# Altium integrated library ON Semi Low VCE(Sat) Transistors.IntLib: 130 symbols (part 3 of 3)
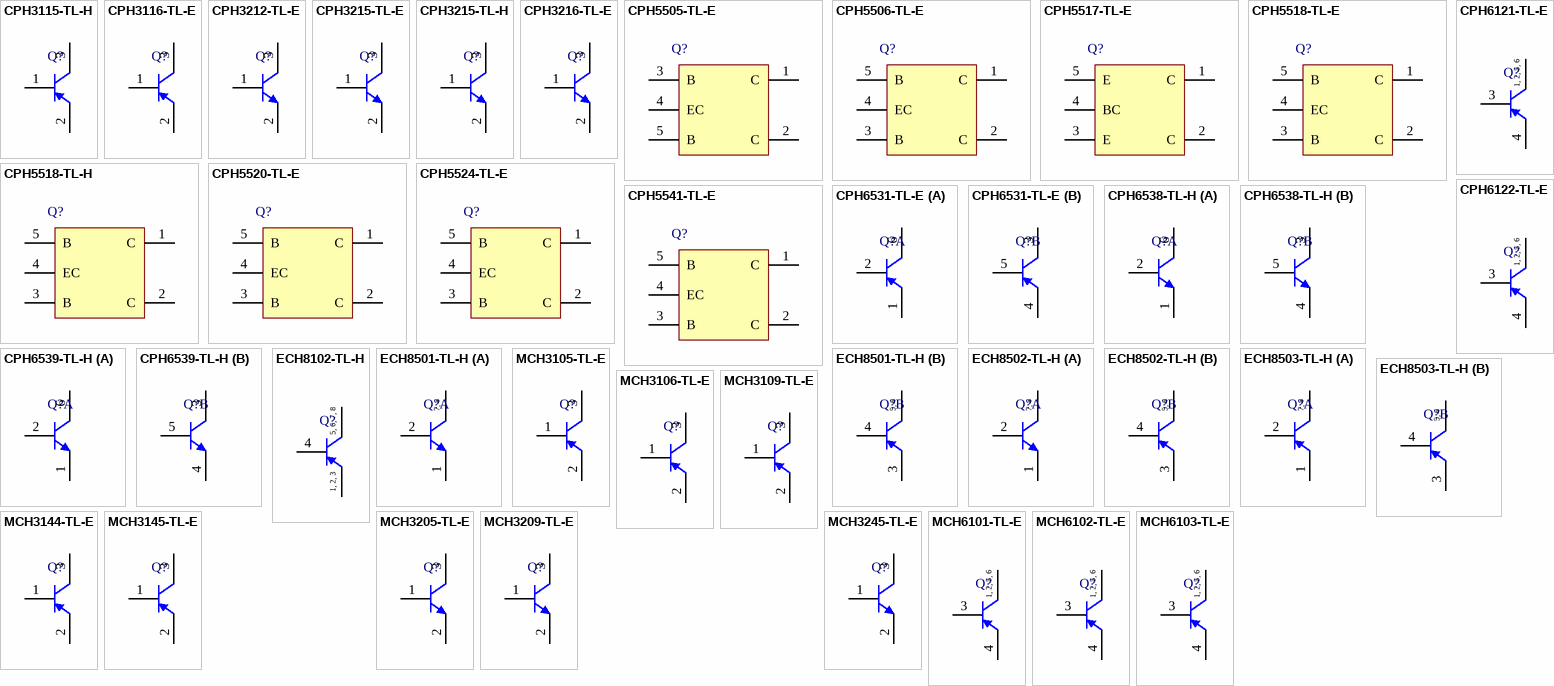
[diagram p5: symbols CPH3115-TL-H to MCH6103-TL-E]

## CPH6122-TL-E
designator Q?
Bipolar Transistor, -30 V, -3 A, Low VCE(sat), PNP Single, 6-Pin CPH, Pb-Free, Tape and Reel; Manufacturer: On Semiconductor; PartNumber: CPH6122-TL-E; hFE Max: 560; hFE Min: 200; PackageReference: CPH-6; PackageDescription: 6-Pin Small Outline Transistor, Body 2.9 x 1.6 mm, Pitch 0.95 mm; Supplier 1: Digi-Key; Supplier Part Number 1: CPH6122-TL-E-ND; Supplier 2: Mouser; Supplier Part Number 2: 863-CPH6122-TL-E; IC Continuous (A): -3; Packing: Tape and Reel; Polarity: PNP; RoHS: TRUE; V(BR)CEO Min (V): -30; Mounting Technology: Surface Mount; ComponentLink1Description: Manufacturer URL; ComponentLink1URL: http://www.onsemi.com/; ComponentLink2Description: Datasheet; ComponentLink2URL: http://www.onsemi.com/pub_link/Collateral/CPH6122-D.PDF; ComponentLink3Description: Package Specification; ComponentLink3URL: http://www.onsemi.com/pub_link/Collateral/CPH6001A-D.PDF
footprint ONSC-CPH-6_V (SOT23, 6-Leads, Body 2.9x1.6mm, Pitch 0.95mm)
pins: 1 C, 2 C, 3 B, 4 E, 5 C, 6 C
text: 1, 2, 5, 6

## CPH6531-TL-E
designator Q?
Bipolar Transistor, -50 V, -1 A, Low VCE(sat) PNP Dual, 6-Pin CPH, Pb-Free, Tape and Reel; Manufacturer: On Semiconductor; PartNumber: CPH6531-TL-E; hFE Max: 560; hFE Min: 200; Polarity: Dual PNP; PackageReference: CPH-6; PackageDescription: 6-Pin Small Outline Transistor, Body 2.9 x 1.6 mm, Pitch 0.95 mm; Supplier 1: Digi-Key; Supplier Part Number 1: CPH6531-TL-E-ND; Supplier 2: Mouser; Supplier Part Number 2: 863-CPH6531-TL-E; IC Continuous (A): -1; Packing: Tape and Reel; RoHS: TRUE; V(BR)CEO Min (V): -50; Mounting Technology: Surface Mount; ComponentLink1Description: Manufacturer URL; ComponentLink1URL: http://www.onsemi.com/; ComponentLink2Description: Datasheet; ComponentLink2URL: http://www.onsemi.cn/pub_link/Collateral/CPH6531-D.PDF; ComponentLink3Description: Package Specification; ComponentLink3URL: http://www.onsemi.com/pub_link/Collateral/CPH6001A-D.PDF
footprint ONSC-CPH-6_V (SOT23, 6-Leads, Body 2.9x1.6mm, Pitch 0.95mm)
part A pins: 1 E, 2 B, 6 C
part B pins: 3 C, 4 E, 5 B

## CPH6538-TL-H
designator Q?
Bipolar Transistors, 30 V, 0.7 A, Low VCE(sat) NPN Dual, 6-Pin CPH, Pb-Free, Tape and Reel; Manufacturer: On Semiconductor; PartNumber: CPH6538-TL-H; hFE Max: 800; hFE Min: 300; IC Continuous (A): 0.7; V(BR)CEO Min (V): 30; VCE(sat) Max (V): 0.19; PackageReference: CPH-6; PackageDescription: 6-Pin Small Outline Transistor, Body 2.9 x 1.6 mm, Pitch 0.95 mm; Supplier 1: Digi-Key; Supplier Part Number 1: CPH6538-TL-H-ND; Supplier 2: Newark; Supplier Part Number 2: 07W6757; Supplier 3: Mouser; Supplier Part Number 3: 863-CPH6538-TL-H; Packing: Tape and Reel; Polarity: NPN; RoHS: TRUE; Mounting Technology: Surface Mount; ComponentLink1Description: Manufacturer URL; ComponentLink1URL: http://www.onsemi.com/; ComponentLink2Description: Datasheet; ComponentLink2URL: http://www.onsemi.com/pub_link/Collateral/ENA1757-D.PDF; ComponentLink3Description: Package Specification; ComponentLink3URL: http://www.onsemi.com/pub_link/Collateral/CPH6001A-D.PDF
footprint ONSC-CPH-6_V (SOT23, 6-Leads, Body 2.9x1.6mm, Pitch 0.95mm)
part A pins: 1 E, 2 B, 6 C
part B pins: 3 C, 4 E, 5 B

## CPH6539-TL-H
designator Q?
Bipolar Transistors, 30 V, 1.5 A, Low VCE(sat) NPN Dual, 6-Pin CPH, Pb-Free, Tape and Reel; Manufacturer: On Semiconductor; PartNumber: CPH6539-TL-H; hFE Max: 560; hFE Min: 200; IC Continuous (A): 1.5; V(BR)CEO Min (V): 30; VCE(sat) Max (V): 0.25; PackageReference: CPH-6; PackageDescription: 6-Pin Small Outline Transistor, Body 2.9 x 1.6 mm, Pitch 0.95 mm; Supplier 1: Digi-Key; Supplier Part Number 1: CPH6539-TL-H-ND; Supplier 2: Newark; Supplier Part Number 2: 07W6758; Supplier 3: Mouser; Supplier Part Number 3: 863-CPH6539-TL-H; Packing: Tape and Reel; Polarity: NPN; RoHS: TRUE; Mounting Technology: Surface Mount; ComponentLink1Description: Manufacturer URL; ComponentLink1URL: http://www.onsemi.com/; ComponentLink2Description: Datasheet; ComponentLink2URL: http://www.onsemi.com/pub_link/Collateral/ENA1756-D.PDF; ComponentLink3Description: Package Specification; ComponentLink3URL: http://www.onsemi.com/pub_link/Collateral/CPH6001A-D.PDF
footprint ONSC-CPH-6_V (SOT23, 6-Leads, Body 2.9x1.6mm, Pitch 0.95mm)
part A pins: 1 E, 2 B, 6 C
part B pins: 3 C, 4 E, 5 B

## ECH8102-TL-H
designator Q?
Bipolar Transistor, -30 V, -12 A, Low VCE(sat), PNP Single, 8-Pin SOT-28FL, Pb-Free, Tape and Reel; Manufacturer: On Semiconductor; PartNumber: ECH8102-TL-H; PackageReference: ECH-8; PackageDescription: 8-Pin SOT23, Body 2.9 x 2.3 mm, Pitch 0.65 mm; Supplier 1: Digi-Key; Supplier Part Number 1: ECH8102-TL-H-ND; Supplier 2: Newark; Supplier Part Number 2: 07W6843; Supplier 3: Mouser; Supplier Part Number 3: 863-ECH8102-TL-H; IC Continuous (A): -12; Packing: Tape and Reel; Polarity: PNP; RoHS: TRUE; V(BR)CEO Min (V): -30; Mounting Technology: Surface Mount; ComponentLink1Description: Manufacturer URL; ComponentLink1URL: http://www.onsemi.com/; ComponentLink2Description: Datasheet; ComponentLink2URL: http://www.onsemi.cn/pub_link/Collateral/ENA1420-D.PDF; ComponentLink3Description: Package Specification; ComponentLink3URL: http://www.onsemi.com/pub_link/Collateral/ECH8308-D.PDF
footprint ONSC-ECH-8_V (SOT23, 8-Leads, Body 2.9x2.3mm, Pitch 0.65mm)
pins: 1 E, 2 E, 3 E, 4 B, 5 C, 6 C, 7 C, 8 C
text: 5, 6, 7, 8; 1, 2, 3

## ECH8501-TL-H
designator Q?
Bipolar Transistor, (-)30 V, (-)30 A, Low VCE(sat) Complementary Dual, 8-Pin SOT-28FL, Pb-Free, Tape and Reel; Manufacturer: On Semiconductor; PartNumber: ECH8501-TL-H; hFE Max: 560; hFE Min: 200; IC Continuous (A): 5; V(BR)CEO Min (V): 30; PackageReference: ECH-8; PackageDescription: 8-Pin SOT23, Body 2.9 x 2.3 mm, Pitch 0.65 mm; Supplier 1: Digi-Key; Supplier Part Number 1: ECH8501-TL-H-ND; Supplier 2: Mouser; Supplier Part Number 2: 863-ECH8501-TL-H; Packing: Tape and Reel; Polarity: Complementary; RoHS: TRUE; Mounting Technology: Surface Mount; ComponentLink1Description: Manufacturer URL; ComponentLink1URL: http://www.onsemi.com/; ComponentLink2Description: Datasheet; ComponentLink2URL: http://www.onsemi.cn/pub_link/Collateral/ECH8501-D.PDF; ComponentLink3Description: Package Specification; ComponentLink3URL: http://www.onsemi.com/pub_link/Collateral/ECH8308-D.PDF
footprint ONSC-ECH-8_V (SOT23, 8-Leads, Body 2.9x2.3mm, Pitch 0.65mm)
part A pins: 1 E, 2 B, 7 C, 8 C
part B pins: 3 E, 4 B, 5 C, 6 C
part A text: 7, 8
part B text: 5, 6

## ECH8502-TL-H
designator Q?
Bipolar Transistor, (-)50 V, (-)30 A, Low VCE(sat) Complementary Dual, 8-Pin SOT-28FL, Pb-Free, Tape and Reel; Manufacturer: On Semiconductor; PartNumber: ECH8502-TL-H; hFE Max: 560; hFE Min: 200; IC Continuous (A): 5; V(BR)CEO Min (V): 50; PackageReference: ECH-8; PackageDescription: 8-Pin SOT23, Body 2.9 x 2.3 mm, Pitch 0.65 mm; Supplier 1: Digi-Key; Supplier Part Number 1: ECH8502-TL-H-ND; Supplier 2: Mouser; Supplier Part Number 2: 863-ECH8502-TL-H; Packing: Tape and Reel; Polarity: Complementary; RoHS: TRUE; Mounting Technology: Surface Mount; ComponentLink1Description: Manufacturer URL; ComponentLink1URL: http://www.onsemi.com/; ComponentLink2Description: Datasheet; ComponentLink2URL: http://www.onsemi.cn/pub_link/Collateral/ENA1758-D.PDF; ComponentLink3Description: Package Specification; ComponentLink3URL: http://www.onsemi.com/pub_link/Collateral/ECH8308-D.PDF
footprint ONSC-ECH-8_V (SOT23, 8-Leads, Body 2.9x2.3mm, Pitch 0.65mm)
part A pins: 1 E, 2 B, 7 C, 8 C
part B pins: 3 E, 4 B, 5 C, 6 C
part A text: 7, 8
part B text: 5, 6

## ECH8503-TL-H
designator Q?
Bipolar Transistors, -50 V, -5 A, Low VCE(sat) PNP Dual, 8-Pin SOT-28, Pb-Free, Tape and Reel; Manufacturer: On Semiconductor; PartNumber: ECH8503-TL-H; hFE Max: 560; hFE Min: 200; Polarity: Dual PNP; PackageReference: ECH-8; PackageDescription: 8-Pin SOT23, Body 2.9 x 2.3 mm, Pitch 0.65 mm; Supplier 1: Digi-Key; Supplier Part Number 1: ECH8503-TL-H-ND; Supplier 2: Mouser; Supplier Part Number 2: 863-ECH8503-TL-H; IC Continuous (A): -5; Packing: Tape and Reel; RoHS: TRUE; V(BR)CEO Min (V): -50; Mounting Technology: Surface Mount; ComponentLink1Description: Manufacturer URL; ComponentLink1URL: http://www.onsemi.com/; ComponentLink2Description: Datasheet; ComponentLink2URL: http://www.onsemi.com/pub_link/Collateral/ENA1680-D.PDF; ComponentLink3Description: Package Specification; ComponentLink3URL: http://www.onsemi.com/pub_link/Collateral/ECH8308-D.PDF
footprint ONSC-ECH-8_V (SOT23, 8-Leads, Body 2.9x2.3mm, Pitch 0.65mm)
part A pins: 1 E, 2 B, 7 C, 8 C
part B pins: 3 E, 4 B, 5 C, 6 C
part A text: 7, 8
part B text: 5, 6

## MCH3105-TL-E
designator Q?
Bipolar Transistor, -50 V, -3 A, Low VCE(sat), PNP Single, 3-Pin SC70, Pb-Free, Tape and Reel; Manufacturer: On Semiconductor; PartNumber: MCH3105-TL-E; hFE Max: 560; hFE Min: 200; VCE(sat) Max (V): -0.2; PackageReference: MCPH-3; PackageDescription: 3-Pin Small Outline Transistor, Body 2 x 1.6 mm, Pitch 0.65 mm; Supplier 1: Digi-Key; Supplier Part Number 1: MCH3105-TL-E-ND; Supplier 2: Newark; Supplier Part Number 2: 07W7057; Supplier 3: Mouser; Supplier Part Number 3: 863-MCH3105-TL-E; IC Continuous (A): -3; Packing: Tape and Reel; Polarity: PNP; RoHS: TRUE; V(BR)CEO Min (V): -50; Mounting Technology: Surface Mount; ComponentLink1Description: Manufacturer URL; ComponentLink1URL: http://www.onsemi.com/; ComponentLink2Description: Datasheet; ComponentLink2URL: http://www.onsemi.com/pub_link/Collateral/EN7128-D.PDF; ComponentLink3Description: Package Specification; ComponentLink3URL: http://www.onsemi.com/pub_link/Collateral/EN7354-D.PDF
footprint ONSC-MCPH-3_V (SOT23, 3-Leads, Body 2x1.6mm, Pitch 0.65mm)
pins: 1 B, 2 E, 3 C

## MCH3106-TL-E
designator Q?
Bipolar Transistor, -12 V, -3 A, Low VCE(sat), PNP Single, 3-Pin SC-70, Pb-Free, Tape and Reel; Manufacturer: On Semiconductor; PartNumber: MCH3106-TL-E; hFE Max: 560; hFE Min: 200; VCE(sat) Max (V): -0.165; PackageReference: MCPH-3; PackageDescription: 3-Pin Small Outline Transistor, Body 2 x 1.6 mm, Pitch 0.65 mm; Supplier 1: Digi-Key; Supplier Part Number 1: MCH3106-TL-E-ND; Supplier 2: Mouser; Supplier Part Number 2: 863-MCH3106-TL-E; IC Continuous (A): -3; Packing: Tape and Reel; Polarity: PNP; RoHS: TRUE; V(BR)CEO Min (V): -12; Mounting Technology: Surface Mount; ComponentLink1Description: Manufacturer URL; ComponentLink1URL: http://www.onsemi.com/; ComponentLink2Description: Datasheet; ComponentLink2URL: http://www.onsemi.com/pub_link/Collateral/EN6861-D.PDF; ComponentLink3Description: Package Specification; ComponentLink3URL: http://www.onsemi.com/pub_link/Collateral/EN7354-D.PDF
footprint ONSC-MCPH-3_V (SOT23, 3-Leads, Body 2x1.6mm, Pitch 0.65mm)
pins: 1 B, 2 E, 3 C

## MCH3109-TL-E
designator Q?
Bipolar Transistor, -30 V, -3 A, Low VCE(sat), PNP Single, 3-Pin SC70, Pb-Free, Tape and Reel; Manufacturer: On Semiconductor; PartNumber: MCH3109-TL-E; hFE Max: 560; hFE Min: 200; VCE(sat) Max (V): -0.23; PackageReference: MCPH-3; PackageDescription: 3-Pin Small Outline Transistor, Body 2 x 1.6 mm, Pitch 0.65 mm; Supplier 1: Digi-Key; Supplier Part Number 1: MCH3109-TL-E-ND; Supplier 2: Mouser; Supplier Part Number 2: 863-MCH3109-TL-E; IC Continuous (A): -3; Packing: Tape and Reel; Polarity: PNP; RoHS: TRUE; V(BR)CEO Min (V): -30; Mounting Technology: Surface Mount; ComponentLink1Description: Manufacturer URL; ComponentLink1URL: http://www.onsemi.com/; ComponentLink2Description: Datasheet; ComponentLink2URL: http://www.onsemi.com/pub_link/Collateral/EN7129-D.PDF; ComponentLink3Description: Package Specification; ComponentLink3URL: http://www.onsemi.com/pub_link/Collateral/EN7354-D.PDF
footprint ONSC-MCPH-3_V (SOT23, 3-Leads, Body 2x1.6mm, Pitch 0.65mm)
pins: 1 B, 2 E, 3 C

## MCH3144-TL-E
designator Q?
Bipolar Transistor, -30 V, -2 A, Low VCE(sat), PNP Single, 3-Pin SC-70, Pb-Free, Tape and Reel; Manufacturer: On Semiconductor; PartNumber: MCH3144-TL-E; hFE Max: 560; hFE Min: 200; VCE(sat) Max (V): -0.26; PackageReference: MCPH-3; PackageDescription: 3-Pin Small Outline Transistor, Body 2 x 1.6 mm, Pitch 0.65 mm; Supplier 1: Digi-Key; Supplier Part Number 1: MCH3144-TL-E-ND; Supplier 2: Mouser; Supplier Part Number 2: 863-MCH3144-TL-E; IC Continuous (A): -2; Packing: Tape and Reel; Polarity: PNP; RoHS: TRUE; V(BR)CEO Min (V): -30; Mounting Technology: Surface Mount; ComponentLink1Description: Manufacturer URL; ComponentLink1URL: http://www.onsemi.com/; ComponentLink2Description: Datasheet; ComponentLink2URL: http://www.onsemi.cn/pub_link/Collateral/EN8210-D.PDF; ComponentLink3Description: Package Specification; ComponentLink3URL: http://www.onsemi.com/pub_link/Collateral/EN7354-D.PDF
footprint ONSC-MCPH-3_V (SOT23, 3-Leads, Body 2x1.6mm, Pitch 0.65mm)
pins: 1 B, 2 E, 3 C

## MCH3145-TL-E
designator Q?
Bipolar Transistor, -50 V, -2 A, Low VCE(sat), PNP Single, 3-Pin SC70, Pb-Free, Tape and Reel; Manufacturer: On Semiconductor; PartNumber: MCH3145-TL-E; hFE Max: 560; hFE Min: 200; PackageReference: MCPH-3; PackageDescription: 3-Pin Small Outline Transistor, Body 2 x 1.6 mm, Pitch 0.65 mm; Supplier 1: Digi-Key; Supplier Part Number 1: MCH3145-TL-E-ND; Supplier 2: Mouser; Supplier Part Number 2: 863-MCH3145-TL-E; IC Continuous (A): -2; Packing: Tape and Reel; Polarity: PNP; RoHS: TRUE; V(BR)CEO Min (V): -50; Mounting Technology: Surface Mount; ComponentLink1Description: Manufacturer URL; ComponentLink1URL: http://www.onsemi.com/; ComponentLink2Description: Datasheet; ComponentLink2URL: http://www.onsemi.cn/pub_link/Collateral/EN8211-D.PDF; ComponentLink3Description: Package Specification; ComponentLink3URL: http://www.onsemi.com/pub_link/Collateral/EN7354-D.PDF
footprint ONSC-MCPH-3_V (SOT23, 3-Leads, Body 2x1.6mm, Pitch 0.65mm)
pins: 1 B, 2 E, 3 C

## MCH3205-TL-E
designator Q?
Bipolar Transistor, 50 V, 3 A, Low VCE(sat), NPN Single, 3-Pin SC70, Pb-Free, Tape and Reel; Manufacturer: On Semiconductor; PartNumber: MCH3205-TL-E; hFE Max: 560; hFE Min: 200; IC Continuous (A): 3; V(BR)CEO Min (V): 50; PackageReference: MCPH-3; PackageDescription: 3-Pin Small Outline Transistor, Body 2 x 1.6 mm, Pitch 0.65 mm; Supplier 1: Digi-Key; Supplier Part Number 1: MCH3205-TL-E-ND; Supplier 2: Mouser; Supplier Part Number 2: 863-MCH3205-TL-E; Packing: Tape and Reel; Polarity: NPN; RoHS: TRUE; Mounting Technology: Surface Mount; ComponentLink1Description: Manufacturer URL; ComponentLink1URL: http://www.onsemi.com/; ComponentLink2Description: Datasheet; ComponentLink2URL: http://www.onsemi.com/pub_link/Collateral/EN7128-D.PDF; ComponentLink3Description: Package Specification; ComponentLink3URL: http://www.onsemi.com/pub_link/Collateral/EN7354-D.PDF
footprint ONSC-MCPH-3_V (SOT23, 3-Leads, Body 2x1.6mm, Pitch 0.65mm)
pins: 1 B, 2 E, 3 C

## MCH3209-TL-E
designator Q?
Bipolar Transistor, 30 V, 3 A, Low VCE(sat), NPN Single, 3-Pin SC70, Pb-Free, Tape and Reel; Manufacturer: On Semiconductor; PartNumber: MCH3209-TL-E; hFE Max: 560; hFE Min: 200; IC Continuous (A): 3; V(BR)CEO Min (V): 30; VCE(sat) Max (V): 0.18; PackageReference: MCPH-3; PackageDescription: 3-Pin Small Outline Transistor, Body 2 x 1.6 mm, Pitch 0.65 mm; Supplier 1: Digi-Key; Supplier Part Number 1: MCH3209-TL-E-ND; Supplier 2: Mouser; Supplier Part Number 2: 863-MCH3209-TL-E; Packing: Tape and Reel; Polarity: NPN; RoHS: TRUE; Mounting Technology: Surface Mount; ComponentLink1Description: Manufacturer URL; ComponentLink1URL: http://www.onsemi.com/; ComponentLink2Description: Datasheet; ComponentLink2URL: http://www.onsemi.com/pub_link/Collateral/EN7129-D.PDF; ComponentLink3Description: Package Specification; ComponentLink3URL: http://www.onsemi.com/pub_link/Collateral/EN7354-D.PDF
footprint ONSC-MCPH-3_V (SOT23, 3-Leads, Body 2x1.6mm, Pitch 0.65mm)
pins: 1 B, 2 E, 3 C

## MCH3245-TL-E
designator Q?
Bipolar Transistor, 50 V, 2 A, Low VCE(sat), NPN Single, 3-Pin SC70, Pb-Free, Tape and Reel; Manufacturer: On Semiconductor; PartNumber: MCH3245-TL-E; hFE Max: 560; hFE Min: 200; IC Continuous (A): 2; V(BR)CEO Min (V): 50; VCE(sat) Max (V): 0.26; PackageReference: MCPH-3; PackageDescription: 3-Pin Small Outline Transistor, Body 2 x 1.6 mm, Pitch 0.65 mm; Supplier 1: Digi-Key; Supplier Part Number 1: MCH3245-TL-E-ND; Supplier 2: Mouser; Supplier Part Number 2: 863-MCH3245-TL-E; Packing: Tape and Reel; Polarity: NPN; RoHS: TRUE; Mounting Technology: Surface Mount; ComponentLink1Description: Manufacturer URL; ComponentLink1URL: http://www.onsemi.com/; ComponentLink2Description: Datasheet; ComponentLink2URL: http://www.onsemi.com/pub_link/Collateral/EN8211-D.PDF; ComponentLink3Description: Package Specification; ComponentLink3URL: http://www.onsemi.com/pub_link/Collateral/EN7354-D.PDF
footprint ONSC-MCPH-3_V (SOT23, 3-Leads, Body 2x1.6mm, Pitch 0.65mm)
pins: 1 B, 2 E, 3 C

## MCH6101-TL-E
designator Q?
Bipolar Transistor, -15 V, -1.5 A, Low VCE(sat), PNP Single, 6-Pin SC-88, Pb-Free, Tape and Reel; Manufacturer: On Semiconductor; PartNumber: MCH6101-TL-E; hFE Max: 560; hFE Min: 200; VCE(sat) Max (V): -0.18; PackageReference: MCPH-6; PackageDescription: 6-Pin Small Outline Transistor, Body 2 x 1.6 mm, Pitch 0.65 mm; Supplier 1: Digi-Key; Supplier Part Number 1: MCH6101-TL-E-ND; Supplier 2: Mouser; Supplier Part Number 2: 863-MCH6101-TL-E; IC Continuous (A): -1.5; Packing: Tape and Reel; Polarity: PNP; RoHS: TRUE; V(BR)CEO Min (V): -15; Mounting Technology: Surface Mount; ComponentLink1Description: Manufacturer URL; ComponentLink1URL: http://www.onsemi.com/; ComponentLink2Description: Datasheet; ComponentLink2URL: http://www.onsemi.cn/pub_link/Collateral/EN6387-D.PDF; ComponentLink3Description: Package Specification; ComponentLink3URL: http://www.onsemi.com/pub_link/Collateral/ENA1601-D.PDF
footprint ONSC-MCPH-6_V (SOT23, 6-Leads, Body 2x1.6mm, Pitch 0.65mm)
pins: 1 C, 2 C, 3 B, 4 E, 5 C, 6 C
text: 1, 2, 5, 6

## MCH6102-TL-E
designator Q?
Bipolar Transistor, -30 V, -1.5 A, Low VCE(sat), PNP Single, 6-Pin SC-88, Pb-Free, Tape and Reel; Manufacturer: On Semiconductor; PartNumber: MCH6102-TL-E; hFE Max: 560; hFE Min: 200; VCE(sat) Max (V): -0.375; PackageReference: MCPH-6; PackageDescription: 6-Pin Small Outline Transistor, Body 2 x 1.6 mm, Pitch 0.65 mm; Supplier 1: Digi-Key; Supplier Part Number 1: 869-1175-2-ND; Supplier 2: Digi-Key; Supplier Part Number 2: 869-1175-1-ND; Supplier 3: Digi-Key; Supplier Part Number 3: 869-1175-6-ND; Supplier 4: Mouser; Supplier Part Number 4: 863-MCH6102-TL-E; IC Continuous (A): -1.5; Packing: Tape and Reel; Polarity: PNP; RoHS: TRUE; V(BR)CEO Min (V): -30; Mounting Technology: Surface Mount; ComponentLink1Description: Manufacturer URL; ComponentLink1URL: http://www.onsemi.com/; ComponentLink2Description: Datasheet; ComponentLink2URL: http://www.onsemi.cn/pub_link/Collateral/EN6480-D.PDF; ComponentLink3Description: Package Specification; ComponentLink3URL: http://www.onsemi.com/pub_link/Collateral/ENA1601-D.PDF
footprint ONSC-MCPH-6_V (SOT23, 6-Leads, Body 2x1.6mm, Pitch 0.65mm)
pins: 1 C, 2 C, 3 B, 4 E, 5 C, 6 C
text: 1, 2, 5, 6

## MCH6103-TL-E
designator Q?
Bipolar Transistor, -50 V, -1 A, Low VCE(sat), PNP Single, 6-Pin SC-88, Pb-Free, Tape and Reel; Manufacturer: On Semiconductor; PartNumber: MCH6103-TL-E; hFE Max: 560; hFE Min: 200; PackageReference: MCPH-6; PackageDescription: 6-Pin Small Outline Transistor, Body 2 x 1.6 mm, Pitch 0.65 mm; Supplier 1: Digi-Key; Supplier Part Number 1: MCH6103-TL-E-ND; Supplier 2: Mouser; Supplier Part Number 2: 863-MCH6103-TL-E; IC Continuous (A): -1; Packing: Tape and Reel; Polarity: PNP; RoHS: TRUE; V(BR)CEO Min (V): -50; Mounting Technology: Surface Mount; ComponentLink1Description: Manufacturer URL; ComponentLink1URL: http://www.onsemi.com/; ComponentLink2Description: Datasheet; ComponentLink2URL: http://www.onsemi.com/pub_link/Collateral/EN6611-D.PDF; ComponentLink3Description: Package Specification; ComponentLink3URL: http://www.onsemi.com/pub_link/Collateral/ENA1601-D.PDF
footprint ONSC-MCPH-6_V (SOT23, 6-Leads, Body 2x1.6mm, Pitch 0.65mm)
pins: 1 C, 2 C, 3 B, 4 E, 5 C, 6 C
text: 1, 2, 5, 6

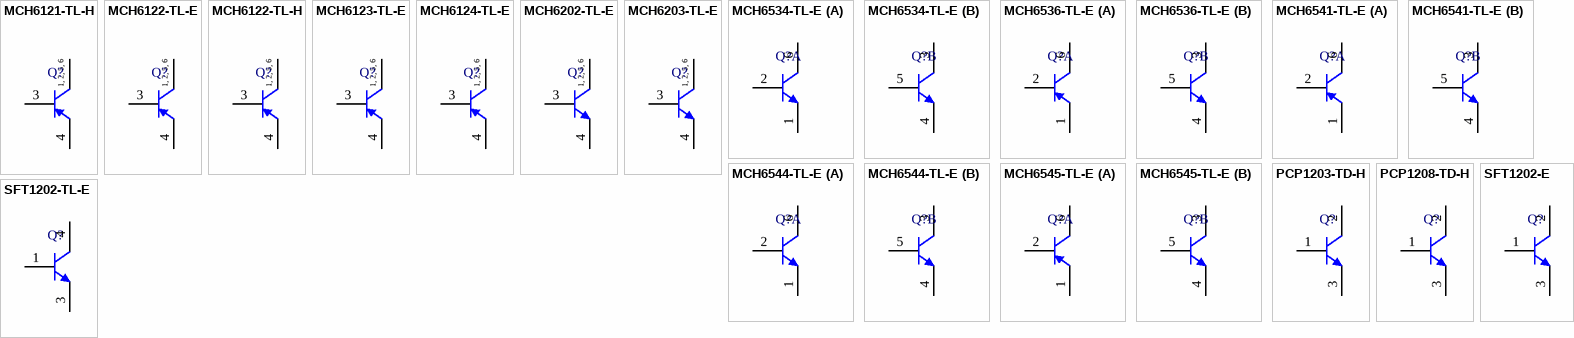
[diagram p3: symbols MCH6121-TL-H to SFT1202-TL-E]

## MCH6121-TL-H
designator Q?
Bipolar Transistor, -12 V, -3 A, Low VCE(sat), PNP Single, 6-Pin SC-88, Pb-Free, Tape and Reel; Manufacturer: On Semiconductor; PartNumber: MCH6121-TL-H; hFE Max: 560; hFE Min: 200; VCE(sat) Max (V): -0.165; PackageReference: MCPH-6; PackageDescription: 6-Pin Small Outline Transistor, Body 2 x 1.6 mm, Pitch 0.65 mm; Supplier 1: Digi-Key; Supplier Part Number 1: MCH6121-TL-H-ND; Supplier 2: Mouser; Supplier Part Number 2: 863-MCH6121-TL-H; IC Continuous (A): -3; Packing: Tape and Reel; Polarity: PNP; RoHS: TRUE; V(BR)CEO Min (V): -12; Mounting Technology: Surface Mount; ComponentLink1Description: Manufacturer URL; ComponentLink1URL: http://www.onsemi.com/; ComponentLink2Description: Datasheet; ComponentLink2URL: http://www.onsemi.cn/pub_link/Collateral/ENA1286-D.PDF; ComponentLink3Description: Package Specification; ComponentLink3URL: http://www.onsemi.com/pub_link/Collateral/ENA1601-D.PDF
footprint ONSC-MCPH-6_V (SOT23, 6-Leads, Body 2x1.6mm, Pitch 0.65mm)
pins: 1 C, 2 C, 3 B, 4 E, 5 C, 6 C
text: 1, 2, 5, 6

## MCH6122-TL-E
designator Q?
Bipolar Transistor, -30 V, -3 A, Low VCE(sat), PNP Single, 6-Pin SC-88, Pb-Free, Tape and Reel; Manufacturer: On Semiconductor; PartNumber: MCH6122-TL-E; hFE Max: 560; hFE Min: 200; PackageReference: MCPH-6; PackageDescription: 6-Pin Small Outline Transistor, Body 2 x 1.6 mm, Pitch 0.65 mm; Supplier 1: Mouser; Supplier Part Number 1: 863-MCH6122-TL-E; IC Continuous (A): -3; Packing: Tape and Reel; Polarity: PNP; RoHS: TRUE; V(BR)CEO Min (V): -30; Mounting Technology: Surface Mount; ComponentLink1Description: Manufacturer URL; ComponentLink1URL: http://www.onsemi.com/; ComponentLink2Description: Datasheet; ComponentLink2URL: http://www.onsemi.com/pub_link/Collateral/ENA1287-D.PDF; ComponentLink3Description: Package Specification; ComponentLink3URL: http://www.onsemi.com/pub_link/Collateral/ENA1601-D.PDF
footprint ONSC-MCPH-6_V (SOT23, 6-Leads, Body 2x1.6mm, Pitch 0.65mm)
pins: 1 C, 2 C, 3 B, 4 E, 5 C, 6 C
text: 1, 2, 5, 6

## MCH6122-TL-H
designator Q?
Bipolar Transistor, -30 V, -3 A, Low VCE(sat), PNP Single, 6-Pin SC-88, Pb-Free, Tape and Reel; Manufacturer: On Semiconductor; PartNumber: MCH6122-TL-H; hFE Max: 560; hFE Min: 200; PackageReference: MCPH-6; PackageDescription: 6-Pin Small Outline Transistor, Body 2 x 1.6 mm, Pitch 0.65 mm; Supplier 1: Digi-Key; Supplier Part Number 1: MCH6122-TL-H-ND; Supplier 2: Mouser; Supplier Part Number 2: 863-MCH6122-TL-H; IC Continuous (A): -3; Packing: Tape and Reel; Polarity: PNP; RoHS: TRUE; V(BR)CEO Min (V): -30; Mounting Technology: Surface Mount; ComponentLink1Description: Manufacturer URL; ComponentLink1URL: http://www.onsemi.com/; ComponentLink2Description: Datasheet; ComponentLink2URL: http://www.onsemi.com/pub_link/Collateral/ENA1287-D.PDF; ComponentLink3Description: Package Specification; ComponentLink3URL: http://www.onsemi.com/pub_link/Collateral/ENA1601-D.PDF
footprint ONSC-MCPH-6_V (SOT23, 6-Leads, Body 2x1.6mm, Pitch 0.65mm)
pins: 1 C, 2 C, 3 B, 4 E, 5 C, 6 C
text: 1, 2, 5, 6

## MCH6123-TL-E
designator Q?
Bipolar Transistor, -50 V, -3 A, Low VCE(sat), PNP Single, 6-Pin SC-88, Pb-Free, Tape and Reel; Manufacturer: On Semiconductor; PartNumber: MCH6123-TL-E; hFE Max: 560; hFE Min: 200; PackageReference: MCPH-6; PackageDescription: 6-Pin Small Outline Transistor, Body 2 x 1.6 mm, Pitch 0.65 mm; Supplier 1: Digi-Key; Supplier Part Number 1: MCH6123-TL-E-ND; Supplier 2: Mouser; Supplier Part Number 2: 863-MCH6123-TL-E; IC Continuous (A): -3; Packing: Tape and Reel; Polarity: PNP; RoHS: TRUE; V(BR)CEO Min (V): -50; Mounting Technology: Surface Mount; ComponentLink1Description: Manufacturer URL; ComponentLink1URL: http://www.onsemi.com/; ComponentLink2Description: Datasheet; ComponentLink2URL: http://www.onsemi.cn/pub_link/Collateral/ENA1291-D.PDF; ComponentLink3Description: Package Specification; ComponentLink3URL: http://www.onsemi.com/pub_link/Collateral/ENA1601-D.PDF
footprint ONSC-MCPH-6_V (SOT23, 6-Leads, Body 2x1.6mm, Pitch 0.65mm)
pins: 1 C, 2 C, 3 B, 4 E, 5 C, 6 C
text: 1, 2, 5, 6

## MCH6124-TL-E
designator Q?
Bipolar Transistor, -20 V, -3 A, Low VCE(sat), PNP Single, 6-Pin SC-88, Pb-Free, Tape and Reel; Manufacturer: On Semiconductor; PartNumber: MCH6124-TL-E; hFE Max: 560; hFE Min: 200; VCE(sat) Max (V): -0.195; PackageReference: MCPH-6; PackageDescription: 6-Pin Small Outline Transistor, Body 2 x 1.6 mm, Pitch 0.65 mm; Supplier 1: Digi-Key; Supplier Part Number 1: MCH6124-TL-E-ND; Supplier 2: Mouser; Supplier Part Number 2: 863-MCH6124-TL-E; IC Continuous (A): -3; Packing: Tape and Reel; Polarity: PNP; RoHS: TRUE; V(BR)CEO Min (V): -20; Mounting Technology: Surface Mount; ComponentLink1Description: Manufacturer URL; ComponentLink1URL: http://www.onsemi.com/; ComponentLink2Description: Datasheet; ComponentLink2URL: http://www.onsemi.com/pub_link/Collateral/ENA1605-D.PDF; ComponentLink3Description: Package Specification; ComponentLink3URL: http://www.onsemi.com/pub_link/Collateral/ENA1601-D.PDF
footprint ONSC-MCPH-6_V (SOT23, 6-Leads, Body 2x1.6mm, Pitch 0.65mm)
pins: 1 C, 2 C, 3 B, 4 E, 5 C, 6 C
text: 1, 2, 5, 6

## MCH6202-TL-E
designator Q?
Bipolar Transistor, 30 V, 1.5 A, Low VCE(sat), NPN Single, 6-Pin SC-88, Pb-Free, Tape and Reel; Manufacturer: On Semiconductor; PartNumber: MCH6202-TL-E; hFE Max: 560; hFE Min: 200; IC Continuous (A): 1.5; V(BR)CEO Min (V): 30; VCE(sat) Max (V): 0.225; PackageReference: MCPH-6; PackageDescription: 6-Pin Small Outline Transistor, Body 2 x 1.6 mm, Pitch 0.65 mm; Supplier 1: Digi-Key; Supplier Part Number 1: 869-1176-2-ND; Supplier 2: Digi-Key; Supplier Part Number 2: 869-1176-1-ND; Supplier 3: Digi-Key; Supplier Part Number 3: 869-1176-6-ND; Supplier 4: Mouser; Supplier Part Number 4: 863-MCH6202-TL-E; Packing: Tape and Reel; Polarity: NPN; RoHS: TRUE; Mounting Technology: Surface Mount; ComponentLink1Description: Manufacturer URL; ComponentLink1URL: http://www.onsemi.com/; ComponentLink2Description: Datasheet; ComponentLink2URL: http://www.onsemi.cn/pub_link/Collateral/EN6480-D.PDF; ComponentLink3Description: Package Specification; ComponentLink3URL: http://www.onsemi.com/pub_link/Collateral/ENA1601-D.PDF
footprint ONSC-MCPH-6_V (SOT23, 6-Leads, Body 2x1.6mm, Pitch 0.65mm)
pins: 1 C, 2 C, 3 B, 4 E, 5 C, 6 C
text: 1, 2, 5, 6

## MCH6203-TL-E
designator Q?
Bipolar Transistor, 50 V, 1 A, Low VCE(sat), NPN Single, 6-Pin SC-88, Pb-Free, Tape and Reel; Manufacturer: On Semiconductor; PartNumber: MCH6203-TL-E; hFE Max: 560; hFE Min: 200; IC Continuous (A): 1; V(BR)CEO Min (V): 50; PackageReference: MCPH-6; PackageDescription: 6-Pin Small Outline Transistor, Body 2 x 1.6 mm, Pitch 0.65 mm; Supplier 1: Digi-Key; Supplier Part Number 1: MCH6203-TL-E-ND; Supplier 2: Mouser; Supplier Part Number 2: 863-MCH6203-TL-E; Packing: Tape and Reel; Polarity: NPN; RoHS: TRUE; Mounting Technology: Surface Mount; ComponentLink1Description: Manufacturer URL; ComponentLink1URL: http://www.onsemi.com/; ComponentLink2Description: Datasheet; ComponentLink2URL: http://www.onsemi.cn/pub_link/Collateral/EN6611-D.PDF; ComponentLink3Description: Package Specification; ComponentLink3URL: http://www.onsemi.com/pub_link/Collateral/ENA1601-D.PDF
footprint ONSC-MCPH-6_V (SOT23, 6-Leads, Body 2x1.6mm, Pitch 0.65mm)
pins: 1 C, 2 C, 3 B, 4 E, 5 C, 6 C
text: 1, 2, 5, 6

## MCH6534-TL-E
designator Q?
Bipolar Transistor, 15 V, 0.7 A, Low VCE(sat) NPN, 6-Pin SC-88, Pb-Free, Tape and Reel; Manufacturer: On Semiconductor; PartNumber: MCH6534-TL-E; hFE Max: 800; hFE Min: 300; IC Continuous (A): 0.7; Polarity: Dual NPN; V(BR)CEO Min (V): 15; VCE(sat) Max (V): 0.3; PackageReference: MCPH-6; PackageDescription: 6-Pin Small Outline Transistor, Body 2 x 1.6 mm, Pitch 0.65 mm; Supplier 1: Digi-Key; Supplier Part Number 1: MCH6534-TL-E-ND; Supplier 2: Newark; Supplier Part Number 2: 07W7087; Supplier 3: Mouser; Supplier Part Number 3: 863-MCH6534-TL-E; Packing: Tape and Reel; RoHS: TRUE; Mounting Technology: Surface Mount; ComponentLink1Description: Manufacturer URL; ComponentLink1URL: http://www.onsemi.com/; ComponentLink2Description: Datasheet; ComponentLink2URL: http://www.onsemi.com/pub_link/Collateral/EN7643-D.PDF; ComponentLink3Description: Package Specification; ComponentLink3URL: http://www.onsemi.com/pub_link/Collateral/ENA1601-D.PDF
footprint ONSC-MCPH-6_V (SOT23, 6-Leads, Body 2x1.6mm, Pitch 0.65mm)
part A pins: 1 E, 2 B, 6 C
part B pins: 3 C, 4 E, 5 B

## MCH6536-TL-E
designator Q?
Bipolar Transistor, 15 V, 1.4 A, Low VCE(sat) Complementary Dual, 6-Pin SC-88, Pb-Free, Tape and Reel; Manufacturer: On Semiconductor; PartNumber: MCH6536-TL-E; hFE Min: 300; Polarity: Dual NPN BRT & PNP TXR; VCE(sat) Max (V): 0.3; PackageReference: MCPH-6; PackageDescription: 6-Pin Small Outline Transistor, Body 2 x 1.6 mm, Pitch 0.65 mm; Supplier 1: Mouser; Supplier Part Number 1: 863-MCH6536-TL-E; Packing: Tape and Reel; RoHS: TRUE; Mounting Technology: Surface Mount; ComponentLink1Description: Manufacturer URL; ComponentLink1URL: http://www.onsemi.com/; ComponentLink2Description: Datasheet; ComponentLink2URL: http://www.onsemi.cn/pub_link/Collateral/EN7645-D.PDF; ComponentLink3Description: Package Specification; ComponentLink3URL: http://www.onsemi.com/pub_link/Collateral/ENA1601-D.PDF
footprint ONSC-MCPH-6_V (SOT23, 6-Leads, Body 2x1.6mm, Pitch 0.65mm)
part A pins: 1 E, 2 B, 6 C
part B pins: 3 C, 4 E, 5 B

## MCH6541-TL-E
designator Q?
Bipolar Transistor, 30 V, 3 A, Low VCE(sat) Complementary Dual, 6-Pin SC-88, Pb-Free, Tape and Reel; Manufacturer: On Semiconductor; PartNumber: MCH6541-TL-E; IC Continuous (A): 0.7; Polarity: Dual NPN BRT & PNP TXR; V(BR)CEO Min (V): 30; PackageReference: MCPH-6; PackageDescription: 6-Pin Small Outline Transistor, Body 2 x 1.6 mm, Pitch 0.65 mm; Supplier 1: Digi-Key; Supplier Part Number 1: MCH6541-TL-E-ND; Supplier 2: Mouser; Supplier Part Number 2: 863-MCH6541-TL-E; Packing: Tape and Reel; RoHS: TRUE; Mounting Technology: Surface Mount; ComponentLink1Description: Manufacturer URL; ComponentLink1URL: http://www.onsemi.com/; ComponentLink2Description: Datasheet; ComponentLink2URL: http://www.onsemi.cn/pub_link/Collateral/EN8949-D.PDF; ComponentLink3Description: Package Specification; ComponentLink3URL: http://www.onsemi.com/pub_link/Collateral/ENA1601-D.PDF
footprint ONSC-MCPH-6_V (SOT23, 6-Leads, Body 2x1.6mm, Pitch 0.65mm)
part A pins: 1 E, 2 B, 6 C
part B pins: 3 C, 4 E, 5 B

## MCH6544-TL-E
designator Q?
Bipolar Transistor, 50 V, 0.5 A, Low VCE(sat) NPN Single, 6-Pin SC-88, Pb-Free, Tape and Reel; Manufacturer: On Semiconductor; PartNumber: MCH6544-TL-E; hFE Max: 800; hFE Min: 300; IC Continuous (A): 0.5; V(BR)CEO Min (V): 50; VCE(sat) Max (V): 0.1; PackageReference: MCPH-6; PackageDescription: 6-Pin Small Outline Transistor, Body 2 x 1.6 mm, Pitch 0.65 mm; Supplier 1: Digi-Key; Supplier Part Number 1: MCH6544-TL-E-ND; Supplier 2: Mouser; Supplier Part Number 2: 863-MCH6544-TL-E; Packing: Tape and Reel; Polarity: NPN; RoHS: TRUE; Mounting Technology: Surface Mount; ComponentLink1Description: Manufacturer URL; ComponentLink1URL: http://www.onsemi.com/; ComponentLink2Description: Datasheet; ComponentLink2URL: http://www.onsemi.cn/pub_link/Collateral/EN8952-D.PDF; ComponentLink3Description: Package Specification; ComponentLink3URL: http://www.onsemi.com/pub_link/Collateral/ENA1601-D.PDF
footprint ONSC-MCPH-6_V (SOT23, 6-Leads, Body 2x1.6mm, Pitch 0.65mm)
part A pins: 1 E, 2 B, 6 C
part B pins: 3 C, 4 E, 5 B

## MCH6545-TL-E
designator Q?
Bipolar Transistor, 50 V, 1 A, Low VCE(sat) Complementary Dual, 6-Pin SC-88, Pb-Free, Tape and Reel; Manufacturer: On Semiconductor; PartNumber: MCH6545-TL-E; IC Continuous (A): 0.5; Polarity: Dual NPN BRT & PNP TXR; V(BR)CEO Min (V): 50; PackageReference: MCPH-6; PackageDescription: 6-Pin Small Outline Transistor, Body 2 x 1.6 mm, Pitch 0.65 mm; Supplier 1: Digi-Key; Supplier Part Number 1: MCH6545-TL-E-ND; Supplier 2: Mouser; Supplier Part Number 2: 863-MCH6545-TL-E; Packing: Tape and Reel; RoHS: TRUE; Mounting Technology: Surface Mount; ComponentLink1Description: Manufacturer URL; ComponentLink1URL: http://www.onsemi.com/; ComponentLink2Description: Datasheet; ComponentLink2URL: http://www.onsemi.cn/pub_link/Collateral/EN8953-D.PDF; ComponentLink3Description: Package Specification; ComponentLink3URL: http://www.onsemi.com/pub_link/Collateral/ENA1601-D.PDF
footprint ONSC-MCPH-6_V (SOT23, 6-Leads, Body 2x1.6mm, Pitch 0.65mm)
part A pins: 1 E, 2 B, 6 C
part B pins: 3 C, 4 E, 5 B

## PCP1203-TD-H
designator Q?
Bipolar Transistor, 30 V, 1.5 A, Low VCE(sat), NPN Single, 3-Pin SOT-89, Pb-Free, Tape and Reel; Manufacturer: On Semiconductor; PartNumber: PCP1203-TD-H; hFE Max: 560; hFE Min: 200; IC Continuous (A): 1.5; V(BR)CEO Min (V): 30; VCE(sat) Max (V): 0.225; PackageVersion: Rev. O, 04/2012; PackageReference: SOT-89_PCP-1-3-419AU; PackageDescription: 3-Pin Small Outline Transistor, Body 4.5 x 2.5 mm, Pitch 1.5 mm; Supplier 1: Digi-Key; Supplier Part Number 1: PCP1203-TD-H-ND; Supplier 2: Mouser; Supplier Part Number 2: 863-PCP1203-TD-H; Packing: Tape and Reel; Polarity: NPN; RoHS: TRUE; Mounting Technology: Surface Mount; ComponentLink1Description: Manufacturer URL; ComponentLink1URL: http://www.onsemi.com/; ComponentLink2Description: Datasheet; ComponentLink2URL: http://www.onsemi.cn/pub_link/Collateral/ENA1348-D.PDF; ComponentLink3Description: Package Specification; ComponentLink3URL: http://www.onsemi.com/pub_link/Collateral/ENA1087-D.PDF
footprint ONSC-SOT-89_PCP-1-3-419AU_V (SOT89, 3-Leads, Body 4.5x2.5mm, Pitch 1.5mm)
pins: 1 B, 2 C, 3 E

## PCP1208-TD-H
designator Q?
Bipolar Transistor, 200 V, 0.7 A Low VCE(sat) NPN Single, 3-Pin SOT-89, Pb-Free, Tape and Reel; Manufacturer: On Semiconductor; PartNumber: PCP1208-TD-H; hFE Max: 560; hFE Min: 200; IC Continuous (A): 0.7; VCE(sat) Max (V): 0.2; PackageVersion: Rev. O, 04/2012; PackageReference: SOT-89_PCP-1-3-419AU; PackageDescription: 3-Pin Small Outline Transistor, Body 4.5 x 2.5 mm, Pitch 1.5 mm; Supplier 1: Digi-Key; Supplier Part Number 1: PCP1208-TD-H-ND; Supplier 2: Newark; Supplier Part Number 2: 65T1536; Supplier 3: Mouser; Supplier Part Number 3: 863-PCP1208-TD-H; Packing: Tape and Reel; Polarity: NPN; RoHS: TRUE; V(BR)CEO Min (V): 200; Mounting Technology: Surface Mount; ComponentLink1Description: Manufacturer URL; ComponentLink1URL: http://www.onsemi.com/; ComponentLink2Description: Datasheet; ComponentLink2URL: http://www.onsemi.cn/pub_link/Collateral/ENA1836-D.PDF; ComponentLink3Description: Package Specification; ComponentLink3URL: http://www.onsemi.com/pub_link/Collateral/ENA1087-D.PDF
footprint ONSC-SOT-89_PCP-1-3-419AU_V (SOT89, 3-Leads, Body 4.5x2.5mm, Pitch 1.5mm)
pins: 1 B, 2 C, 3 E

## SFT1202-E
designator Q?
Bipolar Transistor, 150 V, 2 A, Low VCE(sat), NPN Single, 3-Pin IPAK, Pb-Free, Bulk Bag; Manufacturer: On Semiconductor; PartNumber: SFT1202-E; hFE Max: 560; hFE Min: 200; IC Continuous (A): 2; V(BR)CEO Min (V): 150; PackageVersion: Rev. O, 01/2012; PackageReference: IPAK-3-369AJ; PackageDescription: 3-Pin Flange Mount, Vertical Straight Lead, Body 6.5 x 5.5 mm, Pitch 2.3 mm; Supplier 1: Digi-Key; Supplier Part Number 1: SFT1202-E-ND; Supplier 2: Mouser; Supplier Part Number 2: 863-SFT1202-E; Packing: Bulk Bag; Polarity: NPN; RoHS: TRUE; Mounting Technology: Through Hole; ComponentLink1Description: Manufacturer URL; ComponentLink1URL: http://www.onsemi.com/; ComponentLink2Description: Datasheet; ComponentLink2URL: http://www.onsemi.com/pub_link/Collateral/ENA1169-D.PDF; ComponentLink3Description: Package Specification; ComponentLink3URL: http://www.onsemi.cn/pub_link/Collateral/369AJ.PDF
footprint ONSC-IPAK-3-369AJ (FM, 3-Leads, Body 6.7x2.5mm, Pitch 2.3mm)
pins: 1 B, 2 C, 3 E

## SFT1202-TL-E
designator Q?
Bipolar Transistor, 150 V, 2 A, Low VCE(sat), NPN Single, 3-Pin DPAK, Pb-Free, Tape and Reel; Manufacturer: On Semiconductor; PartNumber: SFT1202-TL-E; hFE Max: 560; hFE Min: 200; IC Continuous (A): 2; V(BR)CEO Min (V): 150; PackageReference: DPAK-3; PackageDescription: 3-Pin Flange Mount, Body 6.5 x 5.5 mm, Pitch 2.3 mm; Supplier 1: Digi-Key; Supplier Part Number 1: SFT1202-TL-E-ND; Supplier 2: Mouser; Supplier Part Number 2: 863-SFT1202-TL-E; Packing: Tape and Reel; Polarity: NPN; RoHS: TRUE; Mounting Technology: Surface Mount; ComponentLink1Description: Manufacturer URL; ComponentLink1URL: http://www.onsemi.com/; ComponentLink2Description: Datasheet; ComponentLink2URL: http://www.onsemi.com/pub_link/Collateral/ENA1169-D.PDF; ComponentLink3Description: Package Specification; ComponentLink3URL: http://www.onsemi.com/pub_link/Collateral/2SB1204-D.PDF
footprint ONSC-DPAK-3_V (DPAK, 3-Leads, Body 6.5x5.5mm, Pitch 2.3mm)
pins: 1 B, 3 E, 4 C